# EAGLE library part PIC32MZ2048EFH100-I/PT (library 00_drich)
datasheet <http://ww1.microchip.com/downloads/en/DeviceDoc/60001320D.pdf>
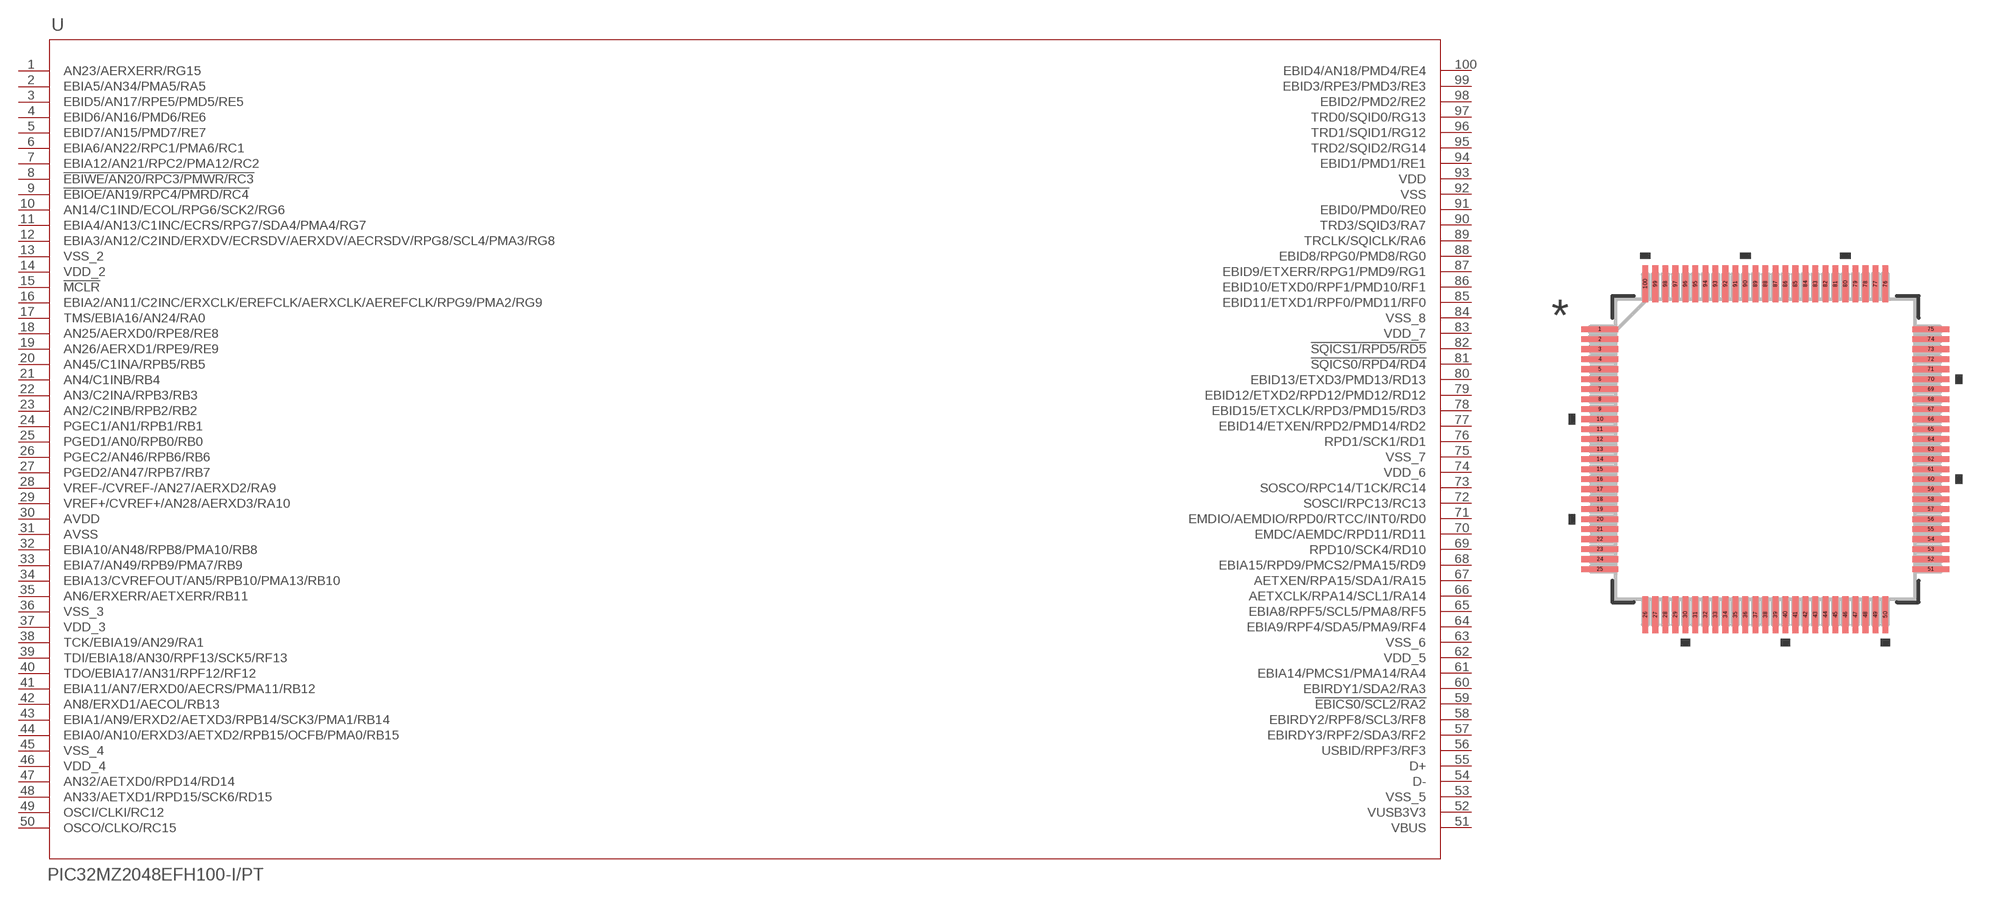
[diagram p0: symbol with the pads of TQFP100_12X12MC; footprint TQFP100_12X12MC]

Designator prefix U

## PIC32MZ2048EFH100-I/PT (MPN: PIC32MZ2048EFH100-I/PT; POPULATE: 1)  [TQFP100_12X12MC]
1  AN23/AERXERR/RG15
2  EBIA5/AN34/PMA5/RA5
3  EBID5/AN17/RPE5/PMD5/RE5
4  EBID6/AN16/PMD6/RE6
5  EBID7/AN15/PMD7/RE7
6  EBIA6/AN22/RPC1/PMA6/RC1
7  EBIA12/AN21/RPC2/PMA12/RC2
8  !EBIWE/AN20/RPC3/PMWR/RC3
9  !EBIOE/AN19/RPC4/PMRD/RC4
10  AN14/C1IND/ECOL/RPG6/SCK2/RG6
11  EBIA4/AN13/C1INC/ECRS/RPG7/SDA4/PMA4/RG7
12  EBIA3/AN12/C2IND/ERXDV/ECRSDV/AERXDV/AECRSDV/RPG8/SCL4/PMA3/RG8
13  VSS_2  pwr
14  VDD_2  pwr
15  !MCLR  pas
16  EBIA2/AN11/C2INC/ERXCLK/EREFCLK/AERXCLK/AEREFCLK/RPG9/PMA2/RG9
17  TMS/EBIA16/AN24/RA0
18  AN25/AERXD0/RPE8/RE8
19  AN26/AERXD1/RPE9/RE9
20  AN45/C1INA/RPB5/RB5
21  AN4/C1INB/RB4
22  AN3/C2INA/RPB3/RB3
23  AN2/C2INB/RPB2/RB2
24  PGEC1/AN1/RPB1/RB1
25  PGED1/AN0/RPB0/RB0
26  PGEC2/AN46/RPB6/RB6
27  PGED2/AN47/RPB7/RB7
28  VREF-/CVREF-/AN27/AERXD2/RA9
29  VREF+/CVREF+/AN28/AERXD3/RA10
30  AVDD  pwr
31  AVSS  pwr
32  EBIA10/AN48/RPB8/PMA10/RB8
33  EBIA7/AN49/RPB9/PMA7/RB9
34  EBIA13/CVREFOUT/AN5/RPB10/PMA13/RB10
35  AN6/ERXERR/AETXERR/RB11
36  VSS_3  pwr
37  VDD_3  pwr
38  TCK/EBIA19/AN29/RA1
39  TDI/EBIA18/AN30/RPF13/SCK5/RF13
40  TDO/EBIA17/AN31/RPF12/RF12
41  EBIA11/AN7/ERXD0/AECRS/PMA11/RB12
42  AN8/ERXD1/AECOL/RB13
43  EBIA1/AN9/ERXD2/AETXD3/RPB14/SCK3/PMA1/RB14
44  EBIA0/AN10/ERXD3/AETXD2/RPB15/OCFB/PMA0/RB15
45  VSS_4  pwr
46  VDD_4  pwr
47  AN32/AETXD0/RPD14/RD14
48  AN33/AETXD1/RPD15/SCK6/RD15
49  OSCI/CLKI/RC12
50  OSCO/CLKO/RC15
51  VBUS  pwr
52  VUSB3V3  pwr
53  VSS_5  pwr
54  D-  pas
55  D+  pas
56  USBID/RPF3/RF3
57  EBIRDY3/RPF2/SDA3/RF2
58  EBIRDY2/RPF8/SCL3/RF8
59  !EBICS0/SCL2/RA2
60  EBIRDY1/SDA2/RA3
61  EBIA14/PMCS1/PMA14/RA4
62  VDD_5  pwr
63  VSS_6  pwr
64  EBIA9/RPF4/SDA5/PMA9/RF4
65  EBIA8/RPF5/SCL5/PMA8/RF5
66  AETXCLK/RPA14/SCL1/RA14
67  AETXEN/RPA15/SDA1/RA15
68  EBIA15/RPD9/PMCS2/PMA15/RD9
69  RPD10/SCK4/RD10
70  EMDC/AEMDC/RPD11/RD11
71  EMDIO/AEMDIO/RPD0/RTCC/INT0/RD0
72  SOSCI/RPC13/RC13
73  SOSCO/RPC14/T1CK/RC14
74  VDD_6  pwr
75  VSS_7  pwr
76  RPD1/SCK1/RD1
77  EBID14/ETXEN/RPD2/PMD14/RD2
78  EBID15/ETXCLK/RPD3/PMD15/RD3
79  EBID12/ETXD2/RPD12/PMD12/RD12
80  EBID13/ETXD3/PMD13/RD13
81  !SQICS0/RPD4/RD4
82  !SQICS1/RPD5/RD5
83  VDD_7  pwr
84  VSS_8  pwr
85  EBID11/ETXD1/RPF0/PMD11/RF0
86  EBID10/ETXD0/RPF1/PMD10/RF1
87  EBID9/ETXERR/RPG1/PMD9/RG1
88  EBID8/RPG0/PMD8/RG0
89  TRCLK/SQICLK/RA6
90  TRD3/SQID3/RA7
91  EBID0/PMD0/RE0
92  VSS  pwr
93  VDD  pwr
94  EBID1/PMD1/RE1
95  TRD2/SQID2/RG14
96  TRD1/SQID1/RG12
97  TRD0/SQID0/RG13
98  EBID2/PMD2/RE2
99  EBID3/RPE3/PMD3/RE3
100  EBID4/AN18/PMD4/RE4

## Footprint TQFP100_12X12MC (pad centres in mm)
smd 1.473 x 0.229: 1 -6.617,4.8; 2 -6.617,4.4; 3 -6.617,4; 4 -6.617,3.6; 5 -6.617,3.2; 6 -6.617,2.8; 7 -6.617,2.4; 8 -6.617,2; 9 -6.617,1.6; 10 -6.617,1.2; 11 -6.617,0.8; 12 -6.617,0.4; 13 -6.617,0; 14 -6.617,-0.4; 15 -6.617,-0.8; 16 -6.617,-1.2; 17 -6.617,-1.6; 18 -6.617,-2; 19 -6.617,-2.4; 20 -6.617,-2.8; 21 -6.617,-3.2; 22 -6.617,-3.6; 23 -6.617,-4; 24 -6.617,-4.4; 25 -6.617,-4.8; 51 6.617,-4.8; 52 6.617,-4.4; 53 6.617,-4; 54 6.617,-3.6; 55 6.617,-3.2; 56 6.617,-2.8; 57 6.617,-2.4; 58 6.617,-2; 59 6.617,-1.6; 60 6.617,-1.2; 61 6.617,-0.8; 62 6.617,-0.4; 63 6.617,0; 64 6.617,0.4; 65 6.617,0.8; 66 6.617,1.2; 67 6.617,1.6; 68 6.617,2; 69 6.617,2.4; 70 6.617,2.8; 71 6.617,3.2; 72 6.617,3.6; 73 6.617,4; 74 6.617,4.4; 75 6.617,4.8
smd 0.229 x 1.473: 26 -4.8,-6.617; 27 -4.4,-6.617; 28 -4,-6.617; 29 -3.6,-6.617; 30 -3.2,-6.617; 31 -2.8,-6.617; 32 -2.4,-6.617; 33 -2,-6.617; 34 -1.6,-6.617; 35 -1.2,-6.617; 36 -0.8,-6.617; 37 -0.4,-6.617; 38 0,-6.617; 39 0.4,-6.617; 40 0.8,-6.617; 41 1.2,-6.617; 42 1.6,-6.617; 43 2,-6.617; 44 2.4,-6.617; 45 2.8,-6.617; 46 3.2,-6.617; 47 3.6,-6.617; 48 4,-6.617; 49 4.4,-6.617; 50 4.8,-6.617; 76 4.8,6.617; 77 4.4,6.617; 78 4,6.617; 79 3.6,6.617; 80 3.2,6.617; 81 2.8,6.617; 82 2.4,6.617; 83 2,6.617; 84 1.6,6.617; 85 1.2,6.617; 86 0.8,6.617; 87 0.4,6.617; 88 0,6.617; 89 -0.4,6.617; 90 -0.8,6.617; 91 -1.2,6.617; 92 -1.6,6.617; 93 -2,6.617; 94 -2.4,6.617; 95 -2.8,6.617; 96 -3.2,6.617; 97 -3.6,6.617; 98 -4,6.617; 99 -4.4,6.617; 100 -4.8,6.617